# Altium footprint library QUTMS_MuliplexerLibrary.PcbLib: 1 footprints
Each footprint in its own frame and in the unit in brackets; x right, y up, seen from the top. Pads: shape width x height; smd on the part's side, far side on the other; paste and mask are expansions set on the pad; w line width, h text height; cw(c..) or ccw(c..) is an arc to the next point about the centre after c.
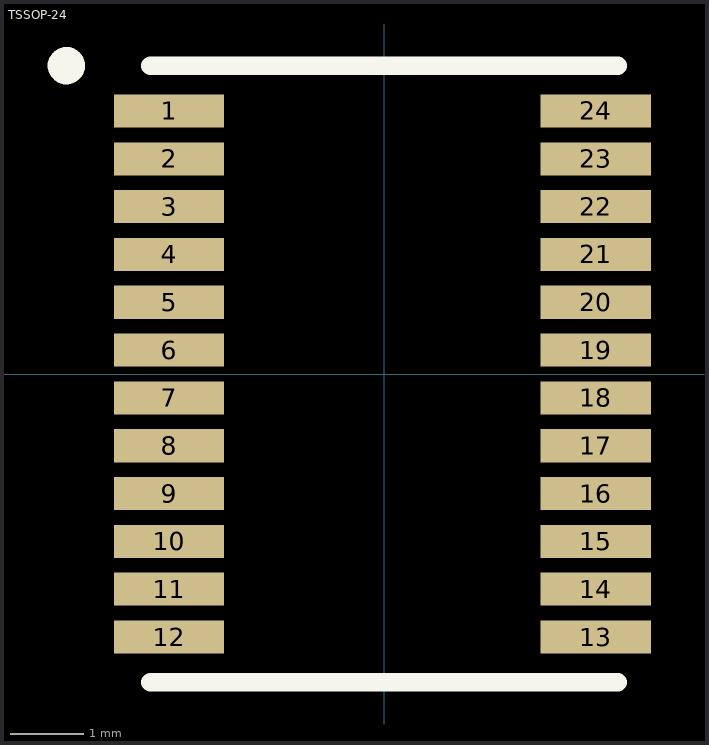
[diagram p0: the footprint, top view; thin cyan lines are the x and y axes]

## TSSOP-24 [mm]
pads (24):
  rect 1.5x0.45 smd: 1(-2.922,3.575) 2(-2.922,2.925) 3(-2.922,2.275) 4(-2.922,1.625) 5(-2.922,0.975) 6(-2.922,0.325) 7(-2.922,-0.325) 8(-2.922,-0.975) 9(-2.922,-1.625) 10(-2.922,-2.275) 11(-2.922,-2.925) 12(-2.922,-3.575) 13(2.879,-3.575) 14(2.879,-2.925) 15(2.879,-2.275) 16(2.879,-1.625) 17(2.879,-0.975) 18(2.879,-0.325) 19(2.879,0.325) 20(2.879,0.975) 21(2.879,1.625) 22(2.879,2.275) 23(2.879,2.925) 24(2.879,3.575)
Top Overlay:
  circle w0.254: c-4.318,4.191 r0.127
  lines w0.254: -3.175,-4.191 3.175,-4.191 ; -3.175,4.191 3.175,4.191
3D body "TSSOP-24.stp": height 1.11, standoff 0.01, extent -3.215,-3.85 3.215,3.85